# Altium footprint library TO5-6.PcbLib: 1 footprints
Each footprint in its own frame and in the unit in brackets; x right, y up, seen from the top. Pads: shape width x height; smd on the part's side, far side on the other; paste and mask are expansions set on the pad; w line width, h text height; cw(c..) or ccw(c..) is an arc to the next point about the centre after c.
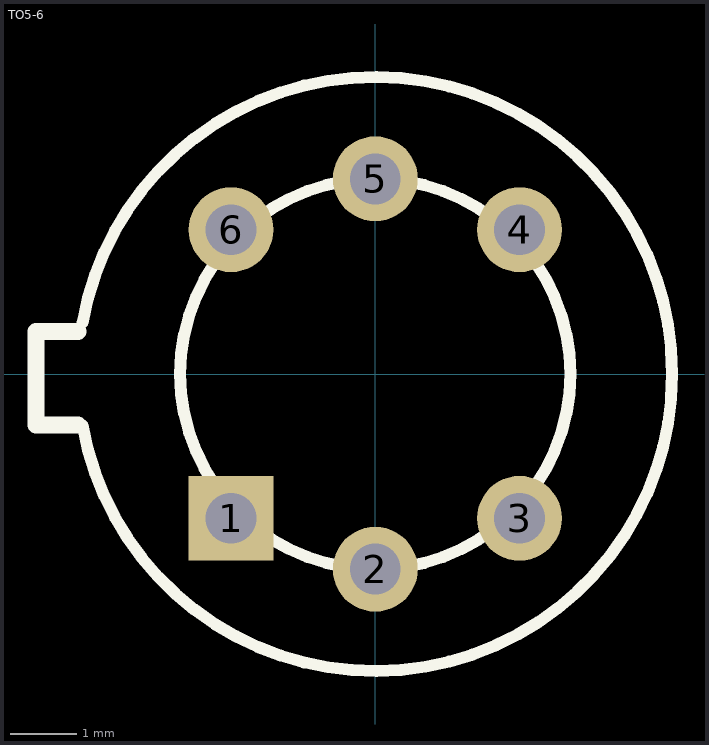
[diagram p0: the footprint, top view; thin cyan lines are the x and y axes]

## TO5-6 [mil]
pads (6):
  rect 50x50 hole 30: 1(-85,-85)
  round 50 hole 30: 2(0,-115) 3(85,-85) 4(85,85) 5(0,115) 6(-85,85)
Top Overlay:
  circle w7: c0,0 r115
  lines w7: -172.4,-30.39 ccw(c-0.06,0) -172.4,30.39
  lines w10: -175,-30 -200,-30 -200,25 -175,25
3D body: height 20, standoff 0, extent -175,-175 173.62,174.31
3D body: height 200, standoff 20, extent -160,-160 158.74,159.37